# Altium integrated library BB Instrumentation Amplifier.IntLib: 107 symbols (part 1 of 3)
Pins are listed as number, name and electrical type; pins without a type are passive.

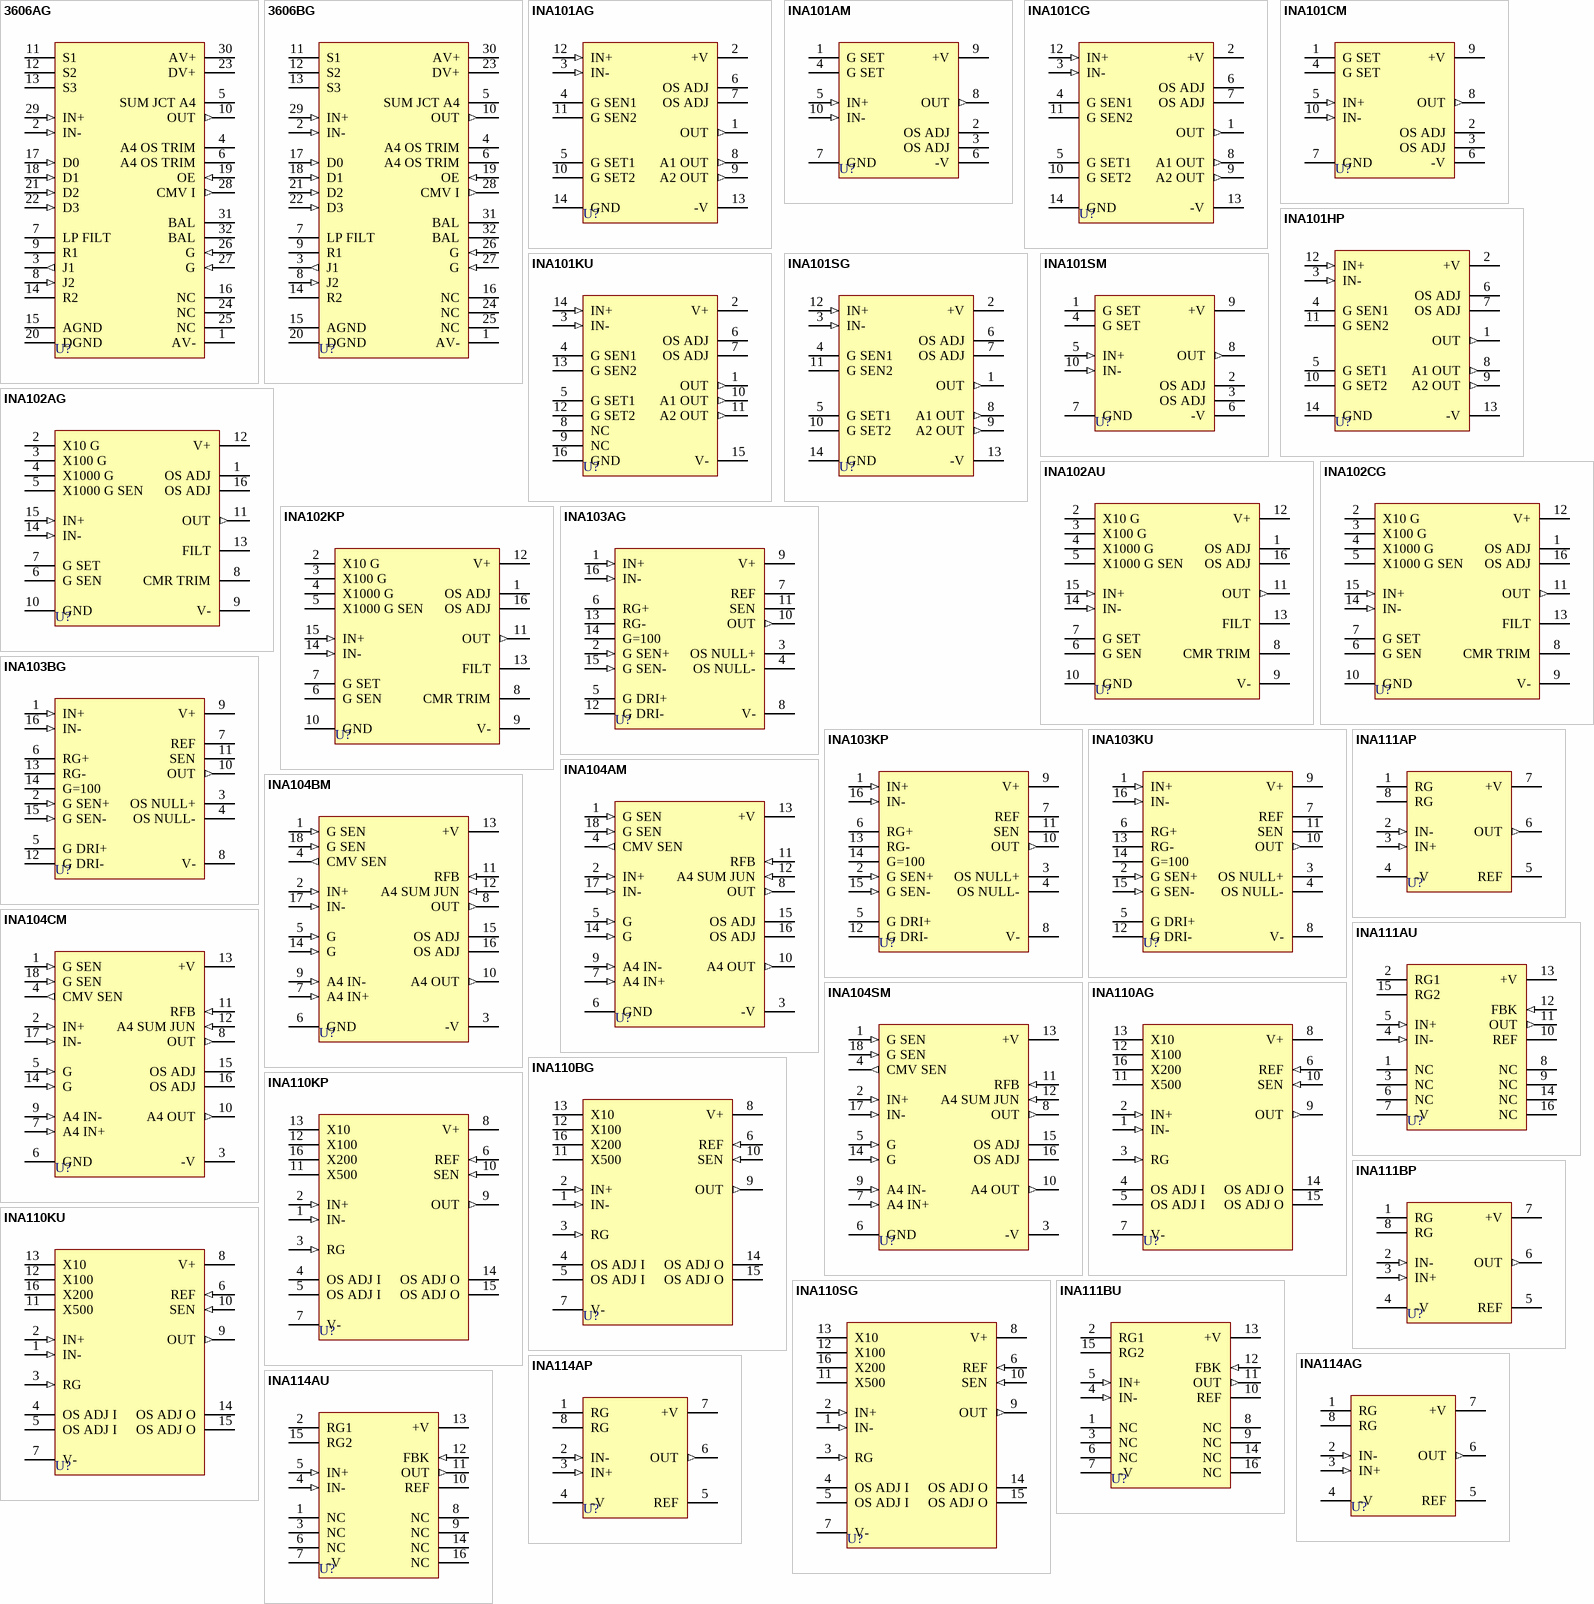
[diagram p0: symbols 3606AG to INA114AU]

## 3606AG
designator U?
Digitally-Controlled Programmable Gain Instrumentation Amplifier; Note: Pins 16, 24 and 25 are No internal Connection (NC) pins.; Published: 8-Jun-2000; LatestRevisionDate: 17-Jul-2002; LatestRevisionNote: Re-released for DXP Platform.; DatasheetVersion: 1989; PackageVersion: revB; PackageReference: ZZ077; Publisher: Altium Limited; PackageDescription: DIP; 32 Round Pins; Row Space 22.86 mm; Pitch 2.54 mm; ComponentLink1Description: Manufacturer Link; ComponentLink1URL: http://www.ti.com/
footprint ZZ077 (DIP; 32 Round Pins; Row Space 22.86 mm; Pitch 2.54 mm)
pins: 1 AV- (power), 2 IN- (in), 3 J1 (out), 4 A4 OS TRIM, 5 SUM JCT A4, 6 A4 OS TRIM, 7 LP FILT, 8 J2 (in), 9 R1, 10 OUT (out), 11 S1, 12 S2, 13 S3, 14 R2, 15 AGND (power), 16 NC, 17 D0 (in), 18 D1 (in), 19 OE (in), 20 DGND (power), 21 D2 (in), 22 D3 (in), 23 DV+ (power), 24 NC, 25 NC, 26 G (in), 27 G (in), 28 CMV I (out), 29 IN+ (in), 30 AV+ (power), 31 BAL, 32 BAL

## 3606BG
designator U?
Digitally-Controlled Programmable Gain Instrumentation Amplifier; Note: Pins 16, 24 and 25 are No internal Connection (NC) pins.; Published: 8-Jun-2000; LatestRevisionDate: 17-Jul-2002; LatestRevisionNote: Re-released for DXP Platform.; DatasheetVersion: 1989; PackageVersion: revB; PackageReference: ZZ077; Publisher: Altium Limited; PackageDescription: DIP; 32 Round Pins; Row Space 22.86 mm; Pitch 2.54 mm; ComponentLink1Description: Manufacturer Link; ComponentLink1URL: http://www.ti.com/
footprint ZZ077 (DIP; 32 Round Pins; Row Space 22.86 mm; Pitch 2.54 mm)
pins: 1 AV- (power), 2 IN- (in), 3 J1 (out), 4 A4 OS TRIM, 5 SUM JCT A4, 6 A4 OS TRIM, 7 LP FILT, 8 J2 (in), 9 R1, 10 OUT (out), 11 S1, 12 S2, 13 S3, 14 R2, 15 AGND (power), 16 NC, 17 D0 (in), 18 D1 (in), 19 OE (in), 20 DGND (power), 21 D2 (in), 22 D3 (in), 23 DV+ (power), 24 NC, 25 NC, 26 G (in), 27 G (in), 28 CMV I (out), 29 IN+ (in), 30 AV+ (power), 31 BAL, 32 BAL

## INA101AG
designator U?
High-Accuracy Instrumentation Amplifier; Published: 8-Jun-2000; LatestRevisionDate: 06-Jun-2005; LatestRevisionNote: Stylized 3D Model Added.; DatasheetVersion: Jul-1998; PackageVersion: 1996/1997; PackageReference: 169F; Publisher: Altium Limited; PackageDescription: DIP; 14 Leads; Row Spacing 7.62 mm; Pitch 2.54 mm; ComponentLink1Description: Manufacturer Link; ComponentLink1URL: http://www.ti.com/; ComponentLink2Description: Datasheet; ComponentLink2URL: http://www-s.ti.com/sc/ds/INA101.pdf
footprint 169F (DIP; 14 Leads; Row Spacing 7.62 mm; Pitch 2.54 mm)
3D model 010G (DIP; 14 Leads; Row Spacing 7.62 mm; Pitch 2.54 mm)
pins: 1 OUT (out), 2 +V (power), 3 IN- (in), 4 G SEN1, 5 G SET1, 6 OS ADJ, 7 OS ADJ, 8 A1 OUT (out), 9 A2 OUT (out), 10 G SET2, 11 G SEN2, 12 IN+ (in), 13 -V (power), 14 GND (power)

## INA101AM
designator U?
High-Accuracy Instrumentation Amplifier; Published: 8-Jun-2000; LatestRevisionDate: 17-Jul-2002; LatestRevisionNote: Re-released for DXP Platform.; DatasheetVersion: Jul-1998; PackageVersion: revA; PackageReference: ZZ007; Publisher: Altium Limited; PackageDescription: Can; 10 Leads; Pin Circle Dia. 5.84 mm (TO-100); Lead Dia. 0.53 mm (max); ComponentLink1Description: Manufacturer Link; ComponentLink1URL: http://www.ti.com/; ComponentLink2Description: Datasheet; ComponentLink2URL: http://www-s.ti.com/sc/ds/INA101.pdf
footprint ZZ007 (Can; 10 Leads; Pin Circle Dia. 5.84 mm (TO-100); Lead Dia. 0.53 mm (max))
pins: 1 G SET, 2 OS ADJ, 3 OS ADJ, 4 G SET, 5 IN+ (in), 6 -V (power), 7 GND (power), 8 OUT (out), 9 +V (power), 10 IN- (in)

## INA101CG
designator U?
High-Accuracy Instrumentation Amplifier; Published: 8-Jun-2000; LatestRevisionDate: 06-Jun-2005; LatestRevisionNote: Stylized 3D Model Added.; DatasheetVersion: Jul-1998; PackageVersion: 1996/1997; PackageReference: 169F; Publisher: Altium Limited; PackageDescription: DIP; 14 Leads; Row Spacing 7.62 mm; Pitch 2.54 mm; ComponentLink1Description: Manufacturer Link; ComponentLink1URL: http://www.ti.com/; ComponentLink2Description: Datasheet; ComponentLink2URL: http://www-s.ti.com/sc/ds/INA101.pdf
footprint 169F (DIP; 14 Leads; Row Spacing 7.62 mm; Pitch 2.54 mm)
3D model 010G (DIP; 14 Leads; Row Spacing 7.62 mm; Pitch 2.54 mm)
pins: 1 OUT (out), 2 +V (power), 3 IN- (in), 4 G SEN1, 5 G SET1, 6 OS ADJ, 7 OS ADJ, 8 A1 OUT (out), 9 A2 OUT (out), 10 G SET2, 11 G SEN2, 12 IN+ (in), 13 -V (power), 14 GND (power)

## INA101CM
designator U?
High-Accuracy Instrumentation Amplifier; Published: 8-Jun-2000; LatestRevisionDate: 17-Jul-2002; LatestRevisionNote: Re-released for DXP Platform.; DatasheetVersion: Jul-1998; PackageVersion: revA; PackageReference: ZZ007; Publisher: Altium Limited; PackageDescription: Can; 10 Leads; Pin Circle Dia. 5.84 mm (TO-100); Lead Dia. 0.53 mm (max); ComponentLink1Description: Manufacturer Link; ComponentLink1URL: http://www.ti.com/; ComponentLink2Description: Datasheet; ComponentLink2URL: http://www-s.ti.com/sc/ds/INA101.pdf
footprint ZZ007 (Can; 10 Leads; Pin Circle Dia. 5.84 mm (TO-100); Lead Dia. 0.53 mm (max))
pins: 1 G SET, 2 OS ADJ, 3 OS ADJ, 4 G SET, 5 IN+ (in), 6 -V (power), 7 GND (power), 8 OUT (out), 9 +V (power), 10 IN- (in)

## INA101HP
designator U?
High-Accuracy Instrumentation Amplifier; Published: 8-Jun-2000; LatestRevisionDate: 06-Jun-2005; LatestRevisionNote: Stylized 3D Model Added.; DatasheetVersion: Jul-1998; PackageVersion: revG; PackageReference: ZZ010; Publisher: Altium Limited; PackageDescription: DIP, Plastic; 14 Leads; Row Spacing 7.62 mm; Pitch 2.54 mm; Code_JEDEC: MS-001-AA; ComponentLink1Description: Manufacturer Link; ComponentLink1URL: http://www.ti.com/; ComponentLink2Description: Datasheet; ComponentLink2URL: http://www-s.ti.com/sc/ds/INA101.pdf
footprint ZZ010 (DIP, Plastic; 14 Leads; Row Spacing 7.62 mm; Pitch 2.54 mm)
3D model DIP14 (DIP, Plastic; 14 Leads; Row Spacing 7.62 mm; Pitch 2.54 mm)
pins: 1 OUT (out), 2 +V (power), 3 IN- (in), 4 G SEN1, 5 G SET1, 6 OS ADJ, 7 OS ADJ, 8 A1 OUT (out), 9 A2 OUT (out), 10 G SET2, 11 G SEN2, 12 IN+ (in), 13 -V (power), 14 GND (power)

## INA101KU
designator U?
High-Accuracy Instrumentation Amplifier; Note: Pins 8 and 9 are No internal Connection (NC) pins.; Published: 8-Jun-2000; LatestRevisionDate: 13-Apr-2006; LatestRevisionNote: IPC-7351 Footprint Added.; DatasheetVersion: Jul-1998; PackageReference: 211F; Publisher: Altium Limited; PackageDescription: 16-Pin Small Outline Integrated Circuit 1.27 mm Pitch; Code_JEDEC: MS-013-AA; Code_IPC: SOIC127P1030-16; ComponentLink1Description: Manufacturer Link; ComponentLink1URL: http://www.ti.com/; ComponentLink2Description: Datasheet; ComponentLink2URL: http://www-s.ti.com/sc/ds/INA101.pdf
footprint 211F_N (SOIC, 16-Leads, Body 10.3x7.5mm, Pitch 1.27mm, IPC Medium Density)
footprint 211F_L (SOIC, 16-Leads, Body 10.3x7.5mm, Pitch 1.27mm, IPC High Density)
footprint 211F_M (SOIC, 16-Leads, Body 10.3x7.5mm, Pitch 1.27mm, IPC Low Density)
3D model SOIC16 (16-Pin Small Outline Integrated Circuit 1.27 mm Pitch)
pins: 1 OUT (out), 2 V+ (power), 3 IN- (in), 4 G SEN1, 5 G SET1, 6 OS ADJ, 7 OS ADJ, 8 NC, 9 NC, 10 A1 OUT (out), 11 A2 OUT (out), 12 G SET2, 13 G SEN2, 14 IN+ (in), 15 V- (power), 16 GND (power)

## INA101SG
designator U?
High-Accuracy Instrumentation Amplifier; Published: 8-Jun-2000; LatestRevisionDate: 06-Jun-2005; LatestRevisionNote: Stylized 3D Model Added.; DatasheetVersion: Jul-1998; PackageVersion: 1996/1997; PackageReference: 169F; Publisher: Altium Limited; PackageDescription: DIP; 14 Leads; Row Spacing 7.62 mm; Pitch 2.54 mm; ComponentLink1Description: Manufacturer Link; ComponentLink1URL: http://www.ti.com/; ComponentLink2Description: Datasheet; ComponentLink2URL: http://www-s.ti.com/sc/ds/INA101.pdf
footprint 169F (DIP; 14 Leads; Row Spacing 7.62 mm; Pitch 2.54 mm)
3D model 010G (DIP; 14 Leads; Row Spacing 7.62 mm; Pitch 2.54 mm)
pins: 1 OUT (out), 2 +V (power), 3 IN- (in), 4 G SEN1, 5 G SET1, 6 OS ADJ, 7 OS ADJ, 8 A1 OUT (out), 9 A2 OUT (out), 10 G SET2, 11 G SEN2, 12 IN+ (in), 13 -V (power), 14 GND (power)

## INA101SM
designator U?
High-Accuracy Instrumentation Amplifier; Published: 8-Jun-2000; LatestRevisionDate: 17-Jul-2002; LatestRevisionNote: Re-released for DXP Platform.; DatasheetVersion: Jul-1998; PackageVersion: revA; PackageReference: ZZ007; Publisher: Altium Limited; PackageDescription: Can; 10 Leads; Pin Circle Dia. 5.84 mm (TO-100); Lead Dia. 0.53 mm (max); ComponentLink1Description: Manufacturer Link; ComponentLink1URL: http://www.ti.com/; ComponentLink2Description: Datasheet; ComponentLink2URL: http://www-s.ti.com/sc/ds/INA101.pdf
footprint ZZ007 (Can; 10 Leads; Pin Circle Dia. 5.84 mm (TO-100); Lead Dia. 0.53 mm (max))
pins: 1 G SET, 2 OS ADJ, 3 OS ADJ, 4 G SET, 5 IN+ (in), 6 -V (power), 7 GND (power), 8 OUT (out), 9 +V (power), 10 IN- (in)

## INA102AG
designator U?
Low-Power Instrumentation Amplifier; Published: 8-Jun-2000; LatestRevisionDate: 06-Jun-2005; LatestRevisionNote: Stylized 3D Model Added.; DatasheetVersion: Oct-1993; PackageVersion: revD; PackageReference: 109D; Publisher: Altium Limited; PackageDescription: DIP; 16 Leads; Row Spacing 7.62 mm; Pitch 2.54 mm; ComponentLink1Description: Manufacturer Link; ComponentLink1URL: http://www.ti.com/; ComponentLink2Description: Datasheet; ComponentLink2URL: http://www-s.ti.com/sc/ds/INA102.pdf
footprint 109D (DIP; 16 Leads; Row Spacing 7.62 mm; Pitch 2.54 mm)
3D model ZZ180 (DIP; 16 Leads; Row Spacing 7.62 mm; Pitch 2.54 mm)
pins: 1 OS ADJ, 2 X10 G, 3 X100 G, 4 X1000 G, 5 X1000 G SEN, 6 G SEN, 7 G SET, 8 CMR TRIM, 9 V- (power), 10 GND (power), 11 OUT (out), 12 V+ (power), 13 FILT, 14 IN- (in), 15 IN+ (in), 16 OS ADJ

## INA102AU
designator U?
Low-Power Instrumentation Amplifier; Published: 8-Jun-2000; LatestRevisionDate: 13-Apr-2006; LatestRevisionNote: IPC-7351 Footprint Added.; DatasheetVersion: Oct-1993; PackageReference: 211F; Publisher: Altium Limited; PackageDescription: 16-Pin Small Outline Integrated Circuit 1.27 mm Pitch; Code_JEDEC: MS-013-AA; Code_IPC: SOIC127P1030-16; ComponentLink1Description: Manufacturer Link; ComponentLink1URL: http://www.ti.com/; ComponentLink2Description: Datasheet; ComponentLink2URL: http://www-s.ti.com/sc/ds/INA102.pdf
footprint 211F_N (SOIC, 16-Leads, Body 10.3x7.5mm, Pitch 1.27mm, IPC Medium Density)
footprint 211F_L (SOIC, 16-Leads, Body 10.3x7.5mm, Pitch 1.27mm, IPC High Density)
footprint 211F_M (SOIC, 16-Leads, Body 10.3x7.5mm, Pitch 1.27mm, IPC Low Density)
3D model SOIC16 (16-Pin Small Outline Integrated Circuit 1.27 mm Pitch)
pins: 1 OS ADJ, 2 X10 G, 3 X100 G, 4 X1000 G, 5 X1000 G SEN, 6 G SEN, 7 G SET, 8 CMR TRIM, 9 V- (power), 10 GND (power), 11 OUT (out), 12 V+ (power), 13 FILT, 14 IN- (in), 15 IN+ (in), 16 OS ADJ

## INA102CG
designator U?
Low-Power Instrumentation Amplifier; Published: 8-Jun-2000; LatestRevisionDate: 06-Jun-2005; LatestRevisionNote: Stylized 3D Model Added.; DatasheetVersion: Oct-1993; PackageVersion: revD; PackageReference: 109D; Publisher: Altium Limited; PackageDescription: DIP; 16 Leads; Row Spacing 7.62 mm; Pitch 2.54 mm; ComponentLink1Description: Manufacturer Link; ComponentLink1URL: http://www.ti.com/; ComponentLink2Description: Datasheet; ComponentLink2URL: http://www-s.ti.com/sc/ds/INA102.pdf
footprint 109D (DIP; 16 Leads; Row Spacing 7.62 mm; Pitch 2.54 mm)
3D model ZZ180 (DIP; 16 Leads; Row Spacing 7.62 mm; Pitch 2.54 mm)
pins: 1 OS ADJ, 2 X10 G, 3 X100 G, 4 X1000 G, 5 X1000 G SEN, 6 G SEN, 7 G SET, 8 CMR TRIM, 9 V- (power), 10 GND (power), 11 OUT (out), 12 V+ (power), 13 FILT, 14 IN- (in), 15 IN+ (in), 16 OS ADJ

## INA102KP
designator U?
Low-Power Instrumentation Amplifier; Published: 8-Jun-2000; LatestRevisionDate: 06-Jun-2005; LatestRevisionNote: Stylized 3D Model Added.; DatasheetVersion: Oct-1993; PackageVersion: revF; PackageReference: ZZ180; Publisher: Altium Limited; PackageDescription: DIP, Plastic; 16 Leads; Row Spacing 7.62 mm; Pitch 2.54 mm; Code_JEDEC: MS-001-BB; ComponentLink1Description: Manufacturer Link; ComponentLink1URL: http://www.ti.com/; ComponentLink2Description: Datasheet; ComponentLink2URL: http://www-s.ti.com/sc/ds/INA102.pdf
footprint ZZ180 (DIP, Plastic; 16 Leads; Row Spacing 7.62 mm; Pitch 2.54 mm)
3D model ZZ180 (DIP, Plastic; 16 Leads; Row Spacing 7.62 mm; Pitch 2.54 mm)
pins: 1 OS ADJ, 2 X10 G, 3 X100 G, 4 X1000 G, 5 X1000 G SEN, 6 G SEN, 7 G SET, 8 CMR TRIM, 9 V- (power), 10 GND (power), 11 OUT (out), 12 V+ (power), 13 FILT, 14 IN- (in), 15 IN+ (in), 16 OS ADJ

## INA103AG
designator U?
Low-Noise, Low Distortion Instrumentation Amplifier; Published: 8-Jun-2000; LatestRevisionDate: 06-Jun-2005; LatestRevisionNote: Stylized 3D Model Added.; DatasheetVersion: 1994; PackageVersion: revD; PackageReference: 109D; Publisher: Altium Limited; PackageDescription: DIP; 16 Leads; Row Spacing 7.62 mm; Pitch 2.54 mm; ComponentLink1Description: Manufacturer Link; ComponentLink1URL: http://www.ti.com/; ComponentLink2Description: Datasheet; ComponentLink2URL: http://www-s.ti.com/sc/ds/ina103.pdf
footprint 109D (DIP; 16 Leads; Row Spacing 7.62 mm; Pitch 2.54 mm)
3D model ZZ180 (DIP; 16 Leads; Row Spacing 7.62 mm; Pitch 2.54 mm)
simulation model INA103 (SUBCKT)
pins: 1 IN+ (in), 2 G SEN+ (in), 3 OS NULL+, 4 OS NULL-, 5 G DRI+, 6 RG+, 7 REF, 8 V- (power), 9 V+ (power), 10 OUT (out), 11 SEN, 12 G DRI-, 13 RG-, 14 G=100, 15 G SEN- (in), 16 IN- (in)

## INA103BG
designator U?
Low-Noise, Low Distortion Instrumentation Amplifier; Published: 8-Jun-2000; LatestRevisionDate: 06-Jun-2005; LatestRevisionNote: Stylized 3D Model Added.; DatasheetVersion: 1994; PackageVersion: revD; PackageReference: 109D; Publisher: Altium Limited; PackageDescription: DIP; 16 Leads; Row Spacing 7.62 mm; Pitch 2.54 mm; ComponentLink1Description: Manufacturer Link; ComponentLink1URL: http://www.ti.com/; ComponentLink2Description: Datasheet; ComponentLink2URL: http://www-s.ti.com/sc/ds/ina103.pdf
footprint 109D (DIP; 16 Leads; Row Spacing 7.62 mm; Pitch 2.54 mm)
3D model ZZ180 (DIP; 16 Leads; Row Spacing 7.62 mm; Pitch 2.54 mm)
simulation model INA103 (SUBCKT)
pins: 1 IN+ (in), 2 G SEN+ (in), 3 OS NULL+, 4 OS NULL-, 5 G DRI+, 6 RG+, 7 REF, 8 V- (power), 9 V+ (power), 10 OUT (out), 11 SEN, 12 G DRI-, 13 RG-, 14 G=100, 15 G SEN- (in), 16 IN- (in)

## INA103KP
designator U?
Low-Noise, Low Distortion Instrumentation Amplifier; Published: 8-Jun-2000; LatestRevisionDate: 06-Jun-2005; LatestRevisionNote: Stylized 3D Model Added.; DatasheetVersion: Mar-1998; PackageVersion: revF; PackageReference: ZZ180; Publisher: Altium Limited; PackageDescription: DIP, Plastic; 16 Leads; Row Spacing 7.62 mm; Pitch 2.54 mm; Code_JEDEC: MS-001-BB; ComponentLink1Description: Manufacturer Link; ComponentLink1URL: http://www.ti.com/; ComponentLink2Description: Datasheet; ComponentLink2URL: http://www-s.ti.com/sc/ds/INA103.pdf
footprint ZZ180 (DIP, Plastic; 16 Leads; Row Spacing 7.62 mm; Pitch 2.54 mm)
3D model ZZ180 (DIP, Plastic; 16 Leads; Row Spacing 7.62 mm; Pitch 2.54 mm)
simulation model INA103 (SUBCKT)
pins: 1 IN+ (in), 2 G SEN+ (in), 3 OS NULL+, 4 OS NULL-, 5 G DRI+, 6 RG+, 7 REF, 8 V- (power), 9 V+ (power), 10 OUT (out), 11 SEN, 12 G DRI-, 13 RG-, 14 G=100, 15 G SEN- (in), 16 IN- (in)

## INA103KU
designator U?
Low-Noise, Low Distortion Instrumentation Amplifier; Published: 8-Jun-2000; LatestRevisionDate: 13-Apr-2006; LatestRevisionNote: IPC-7351 Footprint Added.; DatasheetVersion: Mar-1998; PackageReference: 211F; Publisher: Altium Limited; PackageDescription: 16-Pin Small Outline Integrated Circuit 1.27 mm Pitch; Code_JEDEC: MS-013-AA; Code_IPC: SOIC127P1030-16; ComponentLink1Description: Manufacturer Link; ComponentLink1URL: http://www.ti.com/; ComponentLink2Description: Datasheet; ComponentLink2URL: http://www-s.ti.com/sc/ds/INA103.pdf
footprint 211F_N (SOIC, 16-Leads, Body 10.3x7.5mm, Pitch 1.27mm, IPC Medium Density)
footprint 211F_L (SOIC, 16-Leads, Body 10.3x7.5mm, Pitch 1.27mm, IPC High Density)
footprint 211F_M (SOIC, 16-Leads, Body 10.3x7.5mm, Pitch 1.27mm, IPC Low Density)
3D model SOIC16 (16-Pin Small Outline Integrated Circuit 1.27 mm Pitch)
simulation model INA103 (SUBCKT)
pins: 1 IN+ (in), 2 G SEN+ (in), 3 OS NULL+, 4 OS NULL-, 5 G DRI+, 6 RG+, 7 REF, 8 V- (power), 9 V+ (power), 10 OUT (out), 11 SEN, 12 G DRI-, 13 RG-, 14 G=100, 15 G SEN- (in), 16 IN- (in)

## INA104AM
designator U?
Very-High Accuracy Instrumentation Amplifier; Published: 8-Jun-2000; LatestRevisionDate: 17-Jul-2002; LatestRevisionNote: Re-released for DXP Platform.; DatasheetVersion: May-1995; PackageVersion: revA; PackageReference: ZZ108; Publisher: Altium Limited; PackageDescription: DIP; 18 Round Pins; Row Space 7.62 mm; Pitch 2.54 mm; ComponentLink1Description: Manufacturer Link; ComponentLink1URL: http://www.ti.com/
footprint ZZ108 (DIP; 18 Round Pins; Row Space 7.62 mm; Pitch 2.54 mm)
pins: 1 G SEN (in), 2 IN+ (in), 3 -V (power), 4 CMV SEN (out), 5 G (in), 6 GND (power), 7 A4 IN+ (in), 8 OUT (out), 9 A4 IN- (in), 10 A4 OUT (out), 11 RFB (in), 12 A4 SUM JUN (in), 13 +V (power), 14 G (in), 15 OS ADJ, 16 OS ADJ, 17 IN- (in), 18 G SEN (in)

## INA104BM
designator U?
Very-High Accuracy Instrumentation Amplifier; Published: 8-Jun-2000; LatestRevisionDate: 17-Jul-2002; LatestRevisionNote: Re-released for DXP Platform.; DatasheetVersion: May-1995; PackageVersion: revA; PackageReference: ZZ108; Publisher: Altium Limited; PackageDescription: DIP; 18 Round Pins; Row Space 7.62 mm; Pitch 2.54 mm; ComponentLink1Description: Manufacturer Link; ComponentLink1URL: http://www.ti.com/
footprint ZZ108 (DIP; 18 Round Pins; Row Space 7.62 mm; Pitch 2.54 mm)
pins: 1 G SEN (in), 2 IN+ (in), 3 -V (power), 4 CMV SEN (out), 5 G (in), 6 GND (power), 7 A4 IN+ (in), 8 OUT (out), 9 A4 IN- (in), 10 A4 OUT (out), 11 RFB (in), 12 A4 SUM JUN (in), 13 +V (power), 14 G (in), 15 OS ADJ, 16 OS ADJ, 17 IN- (in), 18 G SEN (in)

## INA104CM
designator U?
Very-High Accuracy Instrumentation Amplifier; Published: 8-Jun-2000; LatestRevisionDate: 17-Jul-2002; LatestRevisionNote: Re-released for DXP Platform.; DatasheetVersion: May-1995; PackageVersion: revA; PackageReference: ZZ108; Publisher: Altium Limited; PackageDescription: DIP; 18 Round Pins; Row Space 7.62 mm; Pitch 2.54 mm; ComponentLink1Description: Manufacturer Link; ComponentLink1URL: http://www.ti.com/
footprint ZZ108 (DIP; 18 Round Pins; Row Space 7.62 mm; Pitch 2.54 mm)
pins: 1 G SEN (in), 2 IN+ (in), 3 -V (power), 4 CMV SEN (out), 5 G (in), 6 GND (power), 7 A4 IN+ (in), 8 OUT (out), 9 A4 IN- (in), 10 A4 OUT (out), 11 RFB (in), 12 A4 SUM JUN (in), 13 +V (power), 14 G (in), 15 OS ADJ, 16 OS ADJ, 17 IN- (in), 18 G SEN (in)

## INA104SM
designator U?
Very-High Accuracy Instrumentation Amplifier; Published: 8-Jun-2000; LatestRevisionDate: 17-Jul-2002; LatestRevisionNote: Re-released for DXP Platform.; DatasheetVersion: May-1995; PackageVersion: revA; PackageReference: ZZ108; Publisher: Altium Limited; PackageDescription: DIP; 18 Round Pins; Row Space 7.62 mm; Pitch 2.54 mm; ComponentLink1Description: Manufacturer Link; ComponentLink1URL: http://www.ti.com/
footprint ZZ108 (DIP; 18 Round Pins; Row Space 7.62 mm; Pitch 2.54 mm)
pins: 1 G SEN (in), 2 IN+ (in), 3 -V (power), 4 CMV SEN (out), 5 G (in), 6 GND (power), 7 A4 IN+ (in), 8 OUT (out), 9 A4 IN- (in), 10 A4 OUT (out), 11 RFB (in), 12 A4 SUM JUN (in), 13 +V (power), 14 G (in), 15 OS ADJ, 16 OS ADJ, 17 IN- (in), 18 G SEN (in)

## INA110AG
designator U?
Fast-Settling FET-Input Instrumentation Amplifier; Published: 8-Jun-2000; LatestRevisionDate: 06-Jun-2005; LatestRevisionNote: Stylized 3D Model Added.; DatasheetVersion: Sep-1993; PackageVersion: revD; PackageReference: 109D; Publisher: Altium Limited; PackageDescription: DIP; 16 Leads; Row Spacing 7.62 mm; Pitch 2.54 mm; ComponentLink1Description: Manufacturer Link; ComponentLink1URL: http://www.ti.com/; ComponentLink2Description: Datasheet; ComponentLink2URL: http://www-s.ti.com/sc/ds/INA110.pdf
footprint 109D (DIP; 16 Leads; Row Spacing 7.62 mm; Pitch 2.54 mm)
3D model ZZ180 (DIP; 16 Leads; Row Spacing 7.62 mm; Pitch 2.54 mm)
pins: 1 IN- (in), 2 IN+ (in), 3 RG (in), 4 OS ADJ I, 5 OS ADJ I, 6 REF (in), 7 V- (power), 8 V+ (power), 9 OUT (out), 10 SEN (in), 11 X500, 12 X100, 13 X10, 14 OS ADJ O, 15 OS ADJ O, 16 X200

## INA110BG
designator U?
Fast-Settling FET-Input Instrumentation Amplifier; Published: 8-Jun-2000; LatestRevisionDate: 06-Jun-2005; LatestRevisionNote: Stylized 3D Model Added.; DatasheetVersion: Sep-1993; PackageVersion: revD; PackageReference: 109D; Publisher: Altium Limited; PackageDescription: DIP; 16 Leads; Row Spacing 7.62 mm; Pitch 2.54 mm; ComponentLink1Description: Manufacturer Link; ComponentLink1URL: http://www.ti.com/; ComponentLink2Description: Datasheet; ComponentLink2URL: http://www-s.ti.com/sc/ds/INA110.pdf
footprint 109D (DIP; 16 Leads; Row Spacing 7.62 mm; Pitch 2.54 mm)
3D model ZZ180 (DIP; 16 Leads; Row Spacing 7.62 mm; Pitch 2.54 mm)
pins: 1 IN- (in), 2 IN+ (in), 3 RG (in), 4 OS ADJ I, 5 OS ADJ I, 6 REF (in), 7 V- (power), 8 V+ (power), 9 OUT (out), 10 SEN (in), 11 X500, 12 X100, 13 X10, 14 OS ADJ O, 15 OS ADJ O, 16 X200

## INA110KP
designator U?
Fast-Settling FET-Input Instrumentation Amplifier; Published: 8-Jun-2000; LatestRevisionDate: 06-Jun-2005; LatestRevisionNote: Stylized 3D Model Added.; DatasheetVersion: Sep-1993; PackageVersion: revF; PackageReference: ZZ180; Publisher: Altium Limited; PackageDescription: DIP, Plastic; 16 Leads; Row Spacing 7.62 mm; Pitch 2.54 mm; Code_JEDEC: MS-001-BB; ComponentLink1Description: Manufacturer Link; ComponentLink1URL: http://www.ti.com/; ComponentLink2Description: Datasheet; ComponentLink2URL: http://www-s.ti.com/sc/ds/INA110.pdf
footprint ZZ180 (DIP, Plastic; 16 Leads; Row Spacing 7.62 mm; Pitch 2.54 mm)
3D model ZZ180 (DIP, Plastic; 16 Leads; Row Spacing 7.62 mm; Pitch 2.54 mm)
pins: 1 IN- (in), 2 IN+ (in), 3 RG (in), 4 OS ADJ I, 5 OS ADJ I, 6 REF (in), 7 V- (power), 8 V+ (power), 9 OUT (out), 10 SEN (in), 11 X500, 12 X100, 13 X10, 14 OS ADJ O, 15 OS ADJ O, 16 X200

## INA110KU
designator U?
Fast-Settling FET-Input Instrumentation Amplifier; Published: 8-Jun-2000; LatestRevisionDate: 13-Apr-2006; LatestRevisionNote: IPC-7351 Footprint Added.; DatasheetVersion: Sep-1993; PackageReference: 211F; Publisher: Altium Limited; PackageDescription: 16-Pin Small Outline Integrated Circuit 1.27 mm Pitch; Code_JEDEC: MS-013-AA; Code_IPC: SOIC127P1030-16; ComponentLink1Description: Manufacturer Link; ComponentLink1URL: http://www.ti.com/; ComponentLink2Description: Datasheet; ComponentLink2URL: http://www-s.ti.com/sc/ds/INA110.pdf
footprint 211F_N (SOIC, 16-Leads, Body 10.3x7.5mm, Pitch 1.27mm, IPC Medium Density)
footprint 211F_L (SOIC, 16-Leads, Body 10.3x7.5mm, Pitch 1.27mm, IPC High Density)
footprint 211F_M (SOIC, 16-Leads, Body 10.3x7.5mm, Pitch 1.27mm, IPC Low Density)
3D model SOIC16 (16-Pin Small Outline Integrated Circuit 1.27 mm Pitch)
pins: 1 IN- (in), 2 IN+ (in), 3 RG (in), 4 OS ADJ I, 5 OS ADJ I, 6 REF (in), 7 V- (power), 8 V+ (power), 9 OUT (out), 10 SEN (in), 11 X500, 12 X100, 13 X10, 14 OS ADJ O, 15 OS ADJ O, 16 X200

## INA110SG
designator U?
Fast-Settling FET-Input Instrumentation Amplifier; Published: 8-Jun-2000; LatestRevisionDate: 06-Jun-2005; LatestRevisionNote: Stylized 3D Model Added.; DatasheetVersion: Sep-1993; PackageVersion: revD; PackageReference: 109D; Publisher: Altium Limited; PackageDescription: DIP; 16 Leads; Row Spacing 7.62 mm; Pitch 2.54 mm; ComponentLink1Description: Manufacturer Link; ComponentLink1URL: http://www.ti.com/; ComponentLink2Description: Datasheet; ComponentLink2URL: http://www-s.ti.com/sc/ds/INA110.pdf
footprint 109D (DIP; 16 Leads; Row Spacing 7.62 mm; Pitch 2.54 mm)
3D model ZZ180 (DIP; 16 Leads; Row Spacing 7.62 mm; Pitch 2.54 mm)
pins: 1 IN- (in), 2 IN+ (in), 3 RG (in), 4 OS ADJ I, 5 OS ADJ I, 6 REF (in), 7 V- (power), 8 V+ (power), 9 OUT (out), 10 SEN (in), 11 X500, 12 X100, 13 X10, 14 OS ADJ O, 15 OS ADJ O, 16 X200

## INA111AP
designator U?
High-Speed FET-Input Instrumentation Amplifier; Published: 8-Jun-2000; LatestRevisionDate: 06-Jun-2005; LatestRevisionNote: Stylized 3D Model Added.; DatasheetVersion: Mar-1998; PackageVersion: revE; PackageReference: 006E; Publisher: Altium Limited; PackageDescription: DIP; 8 Leads; Row Spacing 7.62 mm; Pitch 2.54 mm; ComponentLink1Description: Manufacturer Link; ComponentLink1URL: http://www.ti.com/; ComponentLink2Description: Datasheet; ComponentLink2URL: http://www-s.ti.com/sc/ds/INA111.pdf
footprint 006E (DIP; 8 Leads; Row Spacing 7.62 mm; Pitch 2.54 mm)
3D model DIP8 (DIP; 8 Leads; Row Spacing 7.62 mm; Pitch 2.54 mm)
simulation model INA111 (SUBCKT)
pins: 1 RG, 2 IN- (in), 3 IN+ (in), 4 -V (power), 5 REF, 6 OUT (out), 7 +V (power), 8 RG

## INA111AU
designator U?
High-Speed FET-Input Instrumentation Amplifier; Note: Pins 1, 3, 6, 8, 9, 14 and 16 are No internal Connection (NC) pins.; Published: 8-Jun-2000; LatestRevisionDate: 13-Apr-2006; LatestRevisionNote: IPC-7351 Footprint Added.; DatasheetVersion: Mar-1998; PackageReference: 211F; Publisher: Altium Limited; PackageDescription: 16-Pin Small Outline Integrated Circuit 1.27 mm Pitch; Code_JEDEC: MS-013-AA; Code_IPC: SOIC127P1030-16; ComponentLink1Description: Manufacturer Link; ComponentLink1URL: http://www.ti.com/; ComponentLink2Description: Datasheet; ComponentLink2URL: http://www-s.ti.com/sc/ds/INA111.pdf
footprint 211F_N (SOIC, 16-Leads, Body 10.3x7.5mm, Pitch 1.27mm, IPC Medium Density)
footprint 211F_L (SOIC, 16-Leads, Body 10.3x7.5mm, Pitch 1.27mm, IPC High Density)
footprint 211F_M (SOIC, 16-Leads, Body 10.3x7.5mm, Pitch 1.27mm, IPC Low Density)
3D model SOIC16 (16-Pin Small Outline Integrated Circuit 1.27 mm Pitch)
simulation model INA111 (SUBCKT)
pins: 1 NC, 2 RG1, 3 NC, 4 IN- (in), 5 IN+ (in), 6 NC, 7 -V (power), 8 NC, 9 NC, 10 REF, 11 OUT (out), 12 FBK (in), 13 +V (power), 14 NC, 15 RG2, 16 NC

## INA111BP
designator U?
High-Speed FET-Input Instrumentation Amplifier; Published: 8-Jun-2000; LatestRevisionDate: 06-Jun-2005; LatestRevisionNote: Stylized 3D Model Added.; DatasheetVersion: Mar-1998; PackageVersion: revE; PackageReference: 006E; Publisher: Altium Limited; PackageDescription: DIP; 8 Leads; Row Spacing 7.62 mm; Pitch 2.54 mm; ComponentLink1Description: Manufacturer Link; ComponentLink1URL: http://www.ti.com/; ComponentLink2Description: Datasheet; ComponentLink2URL: http://www-s.ti.com/sc/ds/INA111.pdf
footprint 006E (DIP; 8 Leads; Row Spacing 7.62 mm; Pitch 2.54 mm)
3D model DIP8 (DIP; 8 Leads; Row Spacing 7.62 mm; Pitch 2.54 mm)
simulation model INA111 (SUBCKT)
pins: 1 RG, 2 IN- (in), 3 IN+ (in), 4 -V (power), 5 REF, 6 OUT (out), 7 +V (power), 8 RG

## INA111BU
designator U?
High-Speed FET-Input Instrumentation Amplifier; Note: Pins 1, 3, 6, 8, 9, 14 and 16 are No internal Connection (NC) pins.; Published: 8-Jun-2000; LatestRevisionDate: 13-Apr-2006; LatestRevisionNote: IPC-7351 Footprint Added.; DatasheetVersion: Mar-1998; PackageReference: 211F; Publisher: Altium Limited; PackageDescription: 16-Pin Small Outline Integrated Circuit 1.27 mm Pitch; Code_JEDEC: MS-013-AA; Code_IPC: SOIC127P1030-16; ComponentLink1Description: Manufacturer Link; ComponentLink1URL: http://www.ti.com/; ComponentLink2Description: Datasheet; ComponentLink2URL: http://www-s.ti.com/sc/ds/INA111.pdf
footprint 211F_N (SOIC, 16-Leads, Body 10.3x7.5mm, Pitch 1.27mm, IPC Medium Density)
footprint 211F_L (SOIC, 16-Leads, Body 10.3x7.5mm, Pitch 1.27mm, IPC High Density)
footprint 211F_M (SOIC, 16-Leads, Body 10.3x7.5mm, Pitch 1.27mm, IPC Low Density)
3D model SOIC16 (16-Pin Small Outline Integrated Circuit 1.27 mm Pitch)
simulation model INA111 (SUBCKT)
pins: 1 NC, 2 RG1, 3 NC, 4 IN- (in), 5 IN+ (in), 6 NC, 7 -V (power), 8 NC, 9 NC, 10 REF, 11 OUT (out), 12 FBK (in), 13 +V (power), 14 NC, 15 RG2, 16 NC

## INA114AG
designator U?
Precision Instrumentation Amplifier; Published: 8-Jun-2000; LatestRevisionDate: 06-Jun-2005; LatestRevisionNote: Stylized 3D Model Added.; DatasheetVersion: 1996~1997; PackageVersion: .; PackageReference: 254; Publisher: Altium Limited; PackageDescription: DIP; 8 Leads; Row Spacing 7.62 mm; Pitch 2.54 mm; ComponentLink1Description: Manufacturer Link; ComponentLink1URL: http://www.ti.com/; ComponentLink2Description: Datasheet; ComponentLink2URL: http://www-s.ti.com/sc/ds/ina114.pdf
footprint 254 (DIP; 8 Leads; Row Spacing 7.62 mm; Pitch 2.54 mm)
3D model DIP8 (DIP; 8 Leads; Row Spacing 7.62 mm; Pitch 2.54 mm)
simulation model INA114 (SUBCKT)
pins: 1 RG, 2 IN- (in), 3 IN+ (in), 4 -V (power), 5 REF, 6 OUT (out), 7 +V (power), 8 RG

## INA114AP
designator U?
Precision Instrumentation Amplifier; Published: 8-Jun-2000; LatestRevisionDate: 06-Jun-2005; LatestRevisionNote: Stylized 3D Model Added.; DatasheetVersion: Mar-1998; PackageVersion: revE; PackageReference: 006E; Publisher: Altium Limited; PackageDescription: DIP; 8 Leads; Row Spacing 7.62 mm; Pitch 2.54 mm; ComponentLink1Description: Manufacturer Link; ComponentLink1URL: http://www.ti.com/; ComponentLink2Description: Datasheet; ComponentLink2URL: http://www-s.ti.com/sc/ds/INA114.pdf
footprint 006E (DIP; 8 Leads; Row Spacing 7.62 mm; Pitch 2.54 mm)
3D model DIP8 (DIP; 8 Leads; Row Spacing 7.62 mm; Pitch 2.54 mm)
simulation model INA114 (SUBCKT)
pins: 1 RG, 2 IN- (in), 3 IN+ (in), 4 -V (power), 5 REF, 6 OUT (out), 7 +V (power), 8 RG

## INA114AU
designator U?
Precision Instrumentation Amplifier; Note: Pins 1, 3, 6, 8, 9, 14 and 16 are No internal Connection (NC) pins.; Published: 8-Jun-2000; LatestRevisionDate: 13-Apr-2006; LatestRevisionNote: IPC-7351 Footprint Added.; DatasheetVersion: Mar-1998; PackageReference: 211F; Publisher: Altium Limited; PackageDescription: 16-Pin Small Outline Integrated Circuit 1.27 mm Pitch; Code_JEDEC: MS-013-AA; Code_IPC: SOIC127P1030-16; ComponentLink1Description: Manufacturer Link; ComponentLink1URL: http://www.ti.com/; ComponentLink2Description: Datasheet; ComponentLink2URL: http://www-s.ti.com/sc/ds/INA114.pdf
footprint 211F_N (SOIC, 16-Leads, Body 10.3x7.5mm, Pitch 1.27mm, IPC Medium Density)
footprint 211F_L (SOIC, 16-Leads, Body 10.3x7.5mm, Pitch 1.27mm, IPC High Density)
footprint 211F_M (SOIC, 16-Leads, Body 10.3x7.5mm, Pitch 1.27mm, IPC Low Density)
3D model SOIC16 (16-Pin Small Outline Integrated Circuit 1.27 mm Pitch)
simulation model INA114 (SUBCKT)
pins: 1 NC, 2 RG1, 3 NC, 4 IN- (in), 5 IN+ (in), 6 NC, 7 -V (power), 8 NC, 9 NC, 10 REF, 11 OUT (out), 12 FBK (in), 13 +V (power), 14 NC, 15 RG2, 16 NC

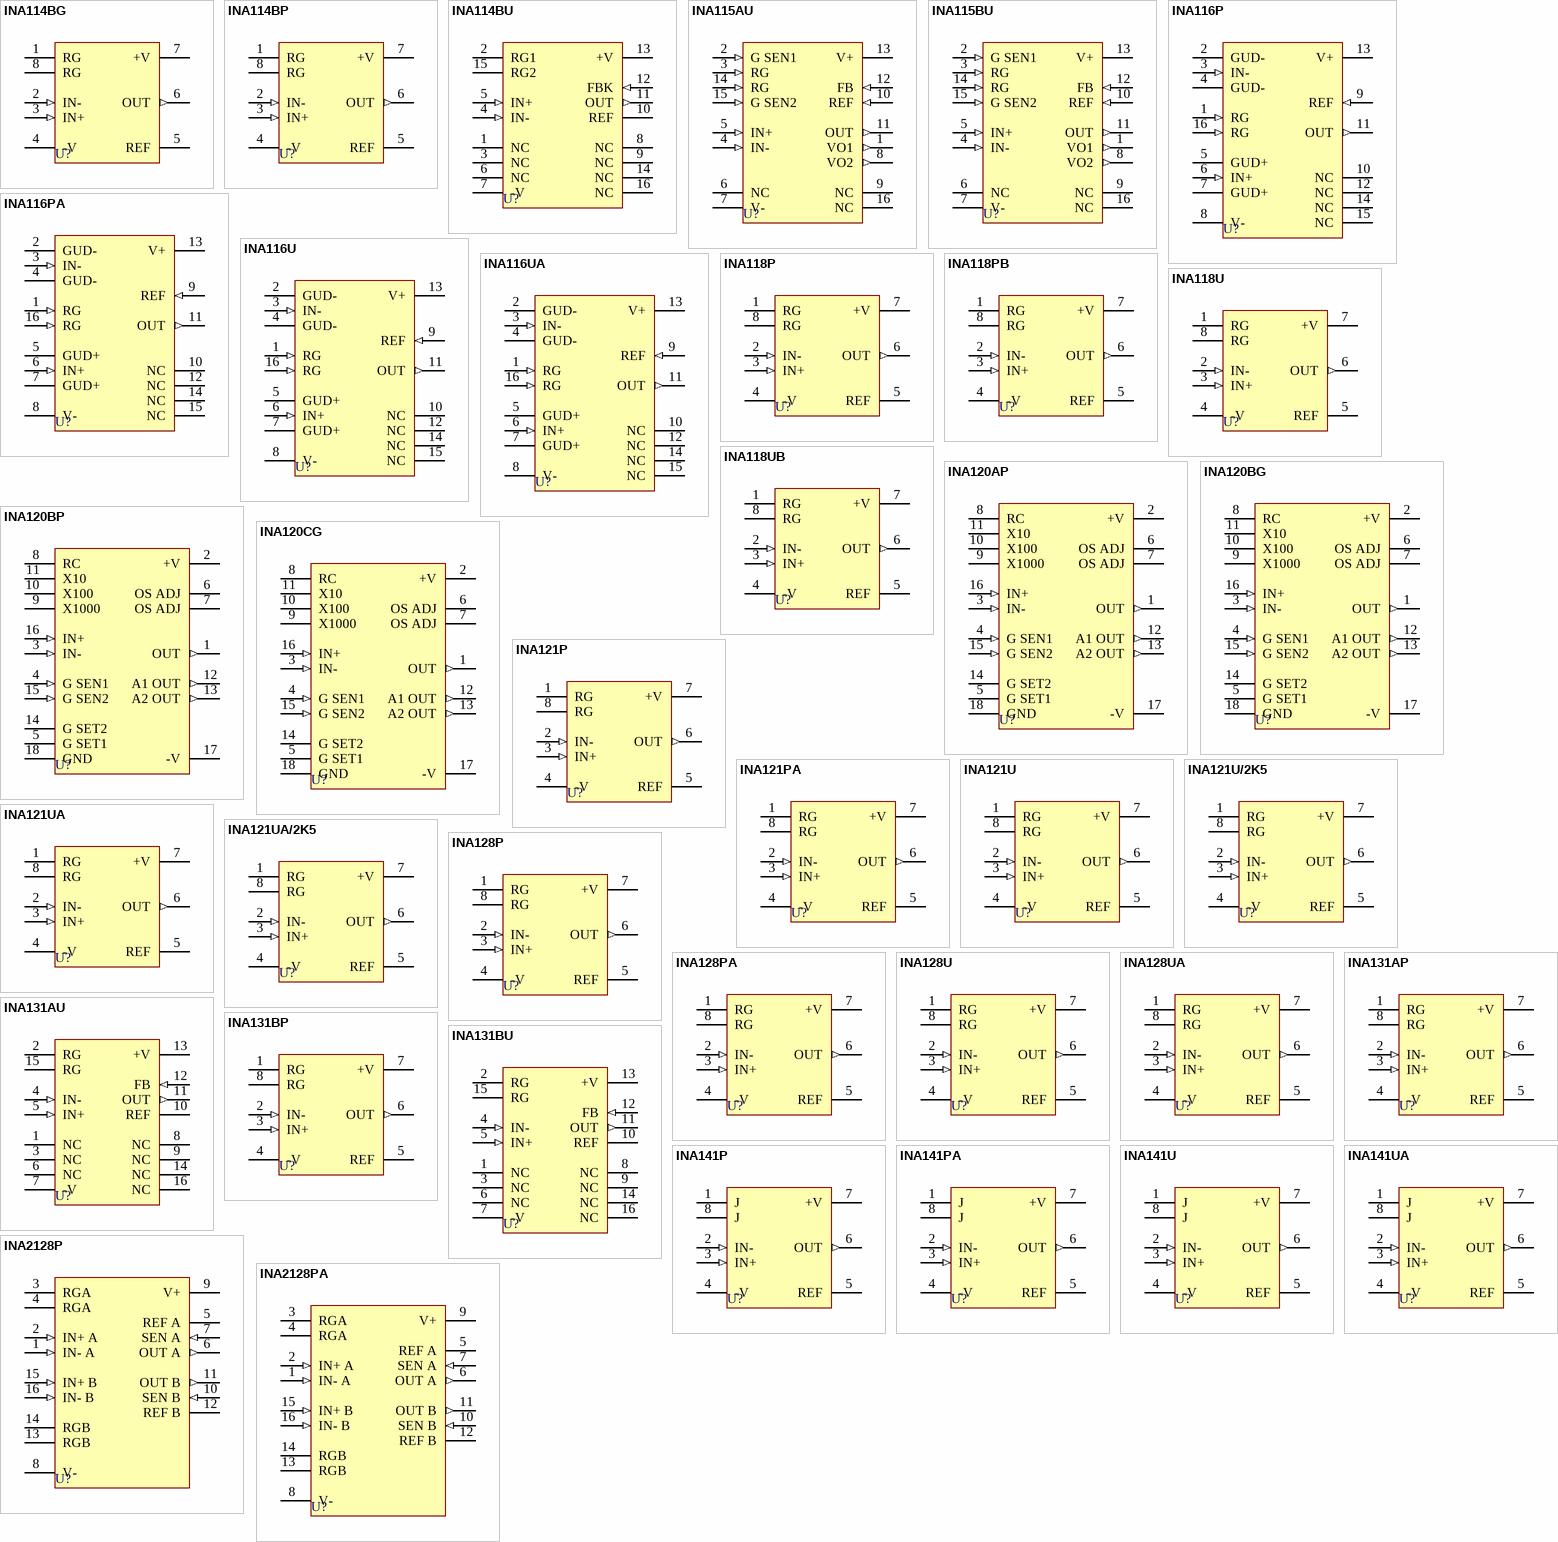
[diagram p1: symbols INA114BG to INA2128PA]

## INA114BG
designator U?
Precision Instrumentation Amplifier; Published: 8-Jun-2000; LatestRevisionDate: 06-Jun-2005; LatestRevisionNote: Stylized 3D Model Added.; DatasheetVersion: 1996~1997; PackageVersion: .; PackageReference: 254; Publisher: Altium Limited; PackageDescription: DIP; 8 Leads; Row Spacing 7.62 mm; Pitch 2.54 mm; ComponentLink1Description: Manufacturer Link; ComponentLink1URL: http://www.ti.com/; ComponentLink2Description: Datasheet; ComponentLink2URL: http://www-s.ti.com/sc/ds/ina114.pdf
footprint 254 (DIP; 8 Leads; Row Spacing 7.62 mm; Pitch 2.54 mm)
3D model DIP8 (DIP; 8 Leads; Row Spacing 7.62 mm; Pitch 2.54 mm)
simulation model INA114 (SUBCKT)
pins: 1 RG, 2 IN- (in), 3 IN+ (in), 4 -V (power), 5 REF, 6 OUT (out), 7 +V (power), 8 RG

## INA114BP
designator U?
Precision Instrumentation Amplifier; Published: 8-Jun-2000; LatestRevisionDate: 06-Jun-2005; LatestRevisionNote: Stylized 3D Model Added.; DatasheetVersion: Mar-1998; PackageVersion: revE; PackageReference: 006E; Publisher: Altium Limited; PackageDescription: DIP; 8 Leads; Row Spacing 7.62 mm; Pitch 2.54 mm; ComponentLink1Description: Manufacturer Link; ComponentLink1URL: http://www.ti.com/; ComponentLink2Description: Datasheet; ComponentLink2URL: http://www-s.ti.com/sc/ds/INA114.pdf
footprint 006E (DIP; 8 Leads; Row Spacing 7.62 mm; Pitch 2.54 mm)
3D model DIP8 (DIP; 8 Leads; Row Spacing 7.62 mm; Pitch 2.54 mm)
simulation model INA114 (SUBCKT)
pins: 1 RG, 2 IN- (in), 3 IN+ (in), 4 -V (power), 5 REF, 6 OUT (out), 7 +V (power), 8 RG

## INA114BU
designator U?
Precision Instrumentation Amplifier; Note: Pins 1, 3, 6, 8, 9, 14 and 16 are No internal Connection (NC) pins.; Published: 8-Jun-2000; LatestRevisionDate: 13-Apr-2006; LatestRevisionNote: IPC-7351 Footprint Added.; DatasheetVersion: Mar-1998; PackageReference: 211F; Publisher: Altium Limited; PackageDescription: 16-Pin Small Outline Integrated Circuit 1.27 mm Pitch; Code_JEDEC: MS-013-AA; Code_IPC: SOIC127P1030-16; ComponentLink1Description: Manufacturer Link; ComponentLink1URL: http://www.ti.com/; ComponentLink2Description: Datasheet; ComponentLink2URL: http://www-s.ti.com/sc/ds/INA114.pdf
footprint 211F_N (SOIC, 16-Leads, Body 10.3x7.5mm, Pitch 1.27mm, IPC Medium Density)
footprint 211F_L (SOIC, 16-Leads, Body 10.3x7.5mm, Pitch 1.27mm, IPC High Density)
footprint 211F_M (SOIC, 16-Leads, Body 10.3x7.5mm, Pitch 1.27mm, IPC Low Density)
3D model SOIC16 (16-Pin Small Outline Integrated Circuit 1.27 mm Pitch)
simulation model INA114 (SUBCKT)
pins: 1 NC, 2 RG1, 3 NC, 4 IN- (in), 5 IN+ (in), 6 NC, 7 -V (power), 8 NC, 9 NC, 10 REF, 11 OUT (out), 12 FBK (in), 13 +V (power), 14 NC, 15 RG2, 16 NC

## INA115AU
designator U?
Precision Instrumentation Amplifier; Note: Pins 6, 9 and 16 are No internal Connection (NC) pins.; Published: 8-Jun-2000; LatestRevisionDate: 13-Apr-2006; LatestRevisionNote: IPC-7351 Footprint Added.; DatasheetVersion: Oct-1993; PackageReference: 211F; Publisher: Altium Limited; PackageDescription: 16-Pin Small Outline Integrated Circuit 1.27 mm Pitch; Code_JEDEC: MS-013-AA; Code_IPC: SOIC127P1030-16; ComponentLink1Description: Manufacturer Link; ComponentLink1URL: http://www.ti.com/; ComponentLink2Description: Datasheet; ComponentLink2URL: http://www-s.ti.com/sc/ds/INA115.pdf
footprint 211F_N (SOIC, 16-Leads, Body 10.3x7.5mm, Pitch 1.27mm, IPC Medium Density)
footprint 211F_L (SOIC, 16-Leads, Body 10.3x7.5mm, Pitch 1.27mm, IPC High Density)
footprint 211F_M (SOIC, 16-Leads, Body 10.3x7.5mm, Pitch 1.27mm, IPC Low Density)
3D model SOIC16 (16-Pin Small Outline Integrated Circuit 1.27 mm Pitch)
simulation model INA115 (SUBCKT)
pins: 1 VO1 (out), 2 G SEN1 (in), 3 RG (in), 4 IN- (in), 5 IN+ (in), 6 NC, 7 V- (power), 8 VO2 (out), 9 NC, 10 REF (in), 11 OUT (out), 12 FB (in), 13 V+ (power), 14 RG (in), 15 G SEN2 (in), 16 NC

## INA115BU
designator U?
Precision Instrumentation Amplifier; Note: Pins 6, 9 and 16 are No internal Connection (NC) pins.; Published: 8-Jun-2000; LatestRevisionDate: 13-Apr-2006; LatestRevisionNote: IPC-7351 Footprint Added.; DatasheetVersion: Oct-1993; PackageReference: 211F; Publisher: Altium Limited; PackageDescription: 16-Pin Small Outline Integrated Circuit 1.27 mm Pitch; Code_JEDEC: MS-013-AA; Code_IPC: SOIC127P1030-16; ComponentLink1Description: Manufacturer Link; ComponentLink1URL: http://www.ti.com/; ComponentLink2Description: Datasheet; ComponentLink2URL: http://www-s.ti.com/sc/ds/INA115.pdf
footprint 211F_N (SOIC, 16-Leads, Body 10.3x7.5mm, Pitch 1.27mm, IPC Medium Density)
footprint 211F_L (SOIC, 16-Leads, Body 10.3x7.5mm, Pitch 1.27mm, IPC High Density)
footprint 211F_M (SOIC, 16-Leads, Body 10.3x7.5mm, Pitch 1.27mm, IPC Low Density)
3D model SOIC16 (16-Pin Small Outline Integrated Circuit 1.27 mm Pitch)
simulation model INA115 (SUBCKT)
pins: 1 VO1 (out), 2 G SEN1 (in), 3 RG (in), 4 IN- (in), 5 IN+ (in), 6 NC, 7 V- (power), 8 VO2 (out), 9 NC, 10 REF (in), 11 OUT (out), 12 FB (in), 13 V+ (power), 14 RG (in), 15 G SEN2 (in), 16 NC

## INA116P
designator U?
Ultra-Low Input Bias Current Instrumentation Amplifier; Note: Pins 10, 12, 14 and 15 are No internal Connection (NC) pins.; Published: 8-Jun-2000; LatestRevisionDate: 06-Jun-2005; LatestRevisionNote: Stylized 3D Model Added.; DatasheetVersion: May-1995; PackageVersion: revF; PackageReference: ZZ180; Publisher: Altium Limited; PackageDescription: DIP, Plastic; 16 Leads; Row Spacing 7.62 mm; Pitch 2.54 mm; Code_JEDEC: MS-001-BB; ComponentLink1Description: Manufacturer Link; ComponentLink1URL: http://www.ti.com/; ComponentLink2Description: Datasheet; ComponentLink2URL: http://www-s.ti.com/sc/ds/INA116.pdf
footprint ZZ180 (DIP, Plastic; 16 Leads; Row Spacing 7.62 mm; Pitch 2.54 mm)
3D model ZZ180 (DIP, Plastic; 16 Leads; Row Spacing 7.62 mm; Pitch 2.54 mm)
pins: 1 RG (in), 2 GUD-, 3 IN- (in), 4 GUD-, 5 GUD+, 6 IN+ (in), 7 GUD+, 8 V- (power), 9 REF (in), 10 NC, 11 OUT (out), 12 NC, 13 V+ (power), 14 NC, 15 NC, 16 RG (in)

## INA116PA
designator U?
Ultra-Low Input Bias Current Instrumentation Amplifier; Note: Pins 10, 12, 14 and 15 are No internal Connection (NC) pins.; Published: 8-Jun-2000; LatestRevisionDate: 06-Jun-2005; LatestRevisionNote: Stylized 3D Model Added.; DatasheetVersion: May-1995; PackageVersion: revF; PackageReference: ZZ180; Publisher: Altium Limited; PackageDescription: DIP, Plastic; 16 Leads; Row Spacing 7.62 mm; Pitch 2.54 mm; Code_JEDEC: MS-001-BB; ComponentLink1Description: Manufacturer Link; ComponentLink1URL: http://www.ti.com/; ComponentLink2Description: Datasheet; ComponentLink2URL: http://www-s.ti.com/sc/ds/INA116.pdf
footprint ZZ180 (DIP, Plastic; 16 Leads; Row Spacing 7.62 mm; Pitch 2.54 mm)
3D model ZZ180 (DIP, Plastic; 16 Leads; Row Spacing 7.62 mm; Pitch 2.54 mm)
pins: 1 RG (in), 2 GUD-, 3 IN- (in), 4 GUD-, 5 GUD+, 6 IN+ (in), 7 GUD+, 8 V- (power), 9 REF (in), 10 NC, 11 OUT (out), 12 NC, 13 V+ (power), 14 NC, 15 NC, 16 RG (in)

## INA116U
designator U?
Ultra-Low Input Bias Current Instrumentation Amplifier; Note: Pins 10, 12, 14 and 15 are No internal Connection (NC) pins.; Published: 8-Jun-2000; LatestRevisionDate: 13-Apr-2006; LatestRevisionNote: IPC-7351 Footprint Added.; DatasheetVersion: May-1995; PackageReference: 211F; Publisher: Altium Limited; PackageDescription: 16-Pin Small Outline Integrated Circuit 1.27 mm Pitch; Code_JEDEC: MS-013-AA; Code_IPC: SOIC127P1030-16; ComponentLink1Description: Manufacturer Link; ComponentLink1URL: http://www.ti.com/; ComponentLink2Description: Datasheet; ComponentLink2URL: http://www-s.ti.com/sc/ds/INA116.pdf
footprint 211F_N (SOIC, 16-Leads, Body 10.3x7.5mm, Pitch 1.27mm, IPC Medium Density)
footprint 211F_L (SOIC, 16-Leads, Body 10.3x7.5mm, Pitch 1.27mm, IPC High Density)
footprint 211F_M (SOIC, 16-Leads, Body 10.3x7.5mm, Pitch 1.27mm, IPC Low Density)
3D model SOIC16 (16-Pin Small Outline Integrated Circuit 1.27 mm Pitch)
pins: 1 RG (in), 2 GUD-, 3 IN- (in), 4 GUD-, 5 GUD+, 6 IN+ (in), 7 GUD+, 8 V- (power), 9 REF (in), 10 NC, 11 OUT (out), 12 NC, 13 V+ (power), 14 NC, 15 NC, 16 RG (in)

## INA116UA
designator U?
Ultra-Low Input Bias Current Instrumentation Amplifier; Note: Pins 10, 12, 14 and 15 are No internal Connection (NC) pins.; Published: 8-Jun-2000; LatestRevisionDate: 13-Apr-2006; LatestRevisionNote: IPC-7351 Footprint Added.; DatasheetVersion: May-1995; PackageReference: 211F; Publisher: Altium Limited; PackageDescription: 16-Pin Small Outline Integrated Circuit 1.27 mm Pitch; Code_JEDEC: MS-013-AA; Code_IPC: SOIC127P1030-16; ComponentLink1Description: Manufacturer Link; ComponentLink1URL: http://www.ti.com/; ComponentLink2Description: Datasheet; ComponentLink2URL: http://www-s.ti.com/sc/ds/INA116.pdf
footprint 211F_N (SOIC, 16-Leads, Body 10.3x7.5mm, Pitch 1.27mm, IPC Medium Density)
footprint 211F_L (SOIC, 16-Leads, Body 10.3x7.5mm, Pitch 1.27mm, IPC High Density)
footprint 211F_M (SOIC, 16-Leads, Body 10.3x7.5mm, Pitch 1.27mm, IPC Low Density)
3D model SOIC16 (16-Pin Small Outline Integrated Circuit 1.27 mm Pitch)
pins: 1 RG (in), 2 GUD-, 3 IN- (in), 4 GUD-, 5 GUD+, 6 IN+ (in), 7 GUD+, 8 V- (power), 9 REF (in), 10 NC, 11 OUT (out), 12 NC, 13 V+ (power), 14 NC, 15 NC, 16 RG (in)

## INA118P
designator U?
Precision, Low-Power Instrumentation Amplifier; Published: 8-Jun-2000; LatestRevisionDate: 06-Jun-2005; LatestRevisionNote: Stylized 3D Model Added.; DatasheetVersion: Apr-1998; PackageVersion: revE; PackageReference: 006E; Publisher: Altium Limited; PackageDescription: DIP; 8 Leads; Row Spacing 7.62 mm; Pitch 2.54 mm; ComponentLink1Description: Manufacturer Link; ComponentLink1URL: http://www.ti.com/; ComponentLink2Description: Datasheet; ComponentLink2URL: http://www-s.ti.com/sc/ds/INA118.pdf
footprint 006E (DIP; 8 Leads; Row Spacing 7.62 mm; Pitch 2.54 mm)
3D model DIP8 (DIP; 8 Leads; Row Spacing 7.62 mm; Pitch 2.54 mm)
simulation model INA118 (SUBCKT)
pins: 1 RG, 2 IN- (in), 3 IN+ (in), 4 -V (power), 5 REF, 6 OUT (out), 7 +V (power), 8 RG

## INA118PB
designator U?
Precision, Low-Power Instrumentation Amplifier; Published: 8-Jun-2000; LatestRevisionDate: 06-Jun-2005; LatestRevisionNote: Stylized 3D Model Added.; DatasheetVersion: Apr-1998; PackageVersion: revE; PackageReference: 006E; Publisher: Altium Limited; PackageDescription: DIP; 8 Leads; Row Spacing 7.62 mm; Pitch 2.54 mm; ComponentLink1Description: Manufacturer Link; ComponentLink1URL: http://www.ti.com/; ComponentLink2Description: Datasheet; ComponentLink2URL: http://www-s.ti.com/sc/ds/INA118.pdf
footprint 006E (DIP; 8 Leads; Row Spacing 7.62 mm; Pitch 2.54 mm)
3D model DIP8 (DIP; 8 Leads; Row Spacing 7.62 mm; Pitch 2.54 mm)
simulation model INA118 (SUBCKT)
pins: 1 RG, 2 IN- (in), 3 IN+ (in), 4 -V (power), 5 REF, 6 OUT (out), 7 +V (power), 8 RG

## INA118U
designator U?
Precision, Low-Power Instrumentation Amplifier; Published: 8-Jun-2000; LatestRevisionDate: 13-Apr-2006; LatestRevisionNote: IPC-7351 Footprint Added.; DatasheetVersion: Apr-1998; PackageReference: 182H; Publisher: Altium Limited; PackageDescription: 8-Pin Small Outline Integrated Circuit 1.27 mm Pitch; Code_JEDEC: MS-012-AA; Code_IPC: SOIC127P600-8; ComponentLink1Description: Manufacturer Link; ComponentLink1URL: http://www.ti.com/; ComponentLink2Description: Datasheet; ComponentLink2URL: http://www-s.ti.com/sc/ds/INA118.pdf
footprint 182H_N (SOIC, 8-Leads, Body 4.9x3.9mm, Pitch 1.27mm, IPC Medium Density)
footprint 182H_L (SOIC, 8-Leads, Body 4.9x3.9mm, Pitch 1.27mm, IPC High Density)
footprint 182H_M (SOIC, 8-Leads, Body 4.9x3.9mm, Pitch 1.27mm, IPC Low Density)
3D model SOIC8 (8-Pin Small Outline Integrated Circuit 1.27 mm Pitch)
simulation model INA118 (SUBCKT)
pins: 1 RG, 2 IN- (in), 3 IN+ (in), 4 -V (power), 5 REF, 6 OUT (out), 7 +V (power), 8 RG

## INA118UB
designator U?
Precision, Low-Power Instrumentation Amplifier; Published: 8-Jun-2000; LatestRevisionDate: 13-Apr-2006; LatestRevisionNote: IPC-7351 Footprint Added.; DatasheetVersion: Apr-1998; PackageReference: 182H; Publisher: Altium Limited; PackageDescription: 8-Pin Small Outline Integrated Circuit 1.27 mm Pitch; Code_JEDEC: MS-012-AA; Code_IPC: SOIC127P600-8; ComponentLink1Description: Manufacturer Link; ComponentLink1URL: http://www.ti.com/; ComponentLink2Description: Datasheet; ComponentLink2URL: http://www-s.ti.com/sc/ds/INA118.pdf
footprint 182H_N (SOIC, 8-Leads, Body 4.9x3.9mm, Pitch 1.27mm, IPC Medium Density)
footprint 182H_L (SOIC, 8-Leads, Body 4.9x3.9mm, Pitch 1.27mm, IPC High Density)
footprint 182H_M (SOIC, 8-Leads, Body 4.9x3.9mm, Pitch 1.27mm, IPC Low Density)
3D model SOIC8 (8-Pin Small Outline Integrated Circuit 1.27 mm Pitch)
simulation model INA118 (SUBCKT)
pins: 1 RG, 2 IN- (in), 3 IN+ (in), 4 -V (power), 5 REF, 6 OUT (out), 7 +V (power), 8 RG

## INA120AP
designator U?
Precision Instrumentation Amplifier; ComponentAvailability: Obsolete; Published: 8-Jun-2000; LatestRevisionDate: 06-Jun-2005; LatestRevisionNote: Stylized 3D Model Added.; DatasheetVersion: 1994; PackageVersion: revD; PackageReference: 218D; Publisher: Altium Limited; PackageDescription: DIP; 18 Leads; Row Spacing 7.62 mm; Pitch 2.54 mm; ComponentLink1Description: Manufacturer Link; ComponentLink1URL: http://www.ti.com/; ComponentLink2Description: Datasheet; ComponentLink2URL: http://www-s.ti.com/sc/ds/ina120.pdf
footprint 218D (DIP; 18 Leads; Row Spacing 7.62 mm; Pitch 2.54 mm)
3D model DIP18 (DIP; 18 Leads; Row Spacing 7.62 mm; Pitch 2.54 mm)
pins: 1 OUT (out), 2 +V (power), 3 IN- (in), 4 G SEN1 (in), 5 G SET1, 6 OS ADJ, 7 OS ADJ, 8 RC, 9 X1000, 10 X100, 11 X10, 12 A1 OUT (out), 13 A2 OUT (out), 14 G SET2, 15 G SEN2 (in), 16 IN+ (in), 17 -V (power), 18 GND (power)

## INA120BG
designator U?
Precision Instrumentation Amplifier; ComponentAvailability: Obsolete; Published: 8-Jun-2000; LatestRevisionDate: 06-Jun-2005; LatestRevisionNote: Stylized 3D Model Added.; DatasheetVersion: 1994; PackageVersion: 1995; PackageReference: 158; Publisher: Altium Limited; PackageDescription: DIP; 18 Leads; Row Spacing 7.62 mm; Pitch 2.54 mm; ComponentLink1Description: Manufacturer Link; ComponentLink1URL: http://www.ti.com/; ComponentLink2Description: Datasheet; ComponentLink2URL: http://www-s.ti.com/sc/ds/ina120.pdf
footprint 158 (DIP; 18 Leads; Row Spacing 7.62 mm; Pitch 2.54 mm)
3D model DIP18 (DIP; 18 Leads; Row Spacing 7.62 mm; Pitch 2.54 mm)
pins: 1 OUT (out), 2 +V (power), 3 IN- (in), 4 G SEN1 (in), 5 G SET1, 6 OS ADJ, 7 OS ADJ, 8 RC, 9 X1000, 10 X100, 11 X10, 12 A1 OUT (out), 13 A2 OUT (out), 14 G SET2, 15 G SEN2 (in), 16 IN+ (in), 17 -V (power), 18 GND (power)

## INA120BP
designator U?
Precision Instrumentation Amplifier; ComponentAvailability: Obsolete; Published: 8-Jun-2000; LatestRevisionDate: 06-Jun-2005; LatestRevisionNote: Stylized 3D Model Added.; DatasheetVersion: 1994; PackageVersion: revD; PackageReference: 218D; Publisher: Altium Limited; PackageDescription: DIP; 18 Leads; Row Spacing 7.62 mm; Pitch 2.54 mm; ComponentLink1Description: Manufacturer Link; ComponentLink1URL: http://www.ti.com/; ComponentLink2Description: Datasheet; ComponentLink2URL: http://www-s.ti.com/sc/ds/ina120.pdf
footprint 218D (DIP; 18 Leads; Row Spacing 7.62 mm; Pitch 2.54 mm)
3D model DIP18 (DIP; 18 Leads; Row Spacing 7.62 mm; Pitch 2.54 mm)
pins: 1 OUT (out), 2 +V (power), 3 IN- (in), 4 G SEN1 (in), 5 G SET1, 6 OS ADJ, 7 OS ADJ, 8 RC, 9 X1000, 10 X100, 11 X10, 12 A1 OUT (out), 13 A2 OUT (out), 14 G SET2, 15 G SEN2 (in), 16 IN+ (in), 17 -V (power), 18 GND (power)

## INA120CG
designator U?
Precision Instrumentation Amplifier; ComponentAvailability: Obsolete; Published: 8-Jun-2000; LatestRevisionDate: 06-Jun-2005; LatestRevisionNote: Stylized 3D Model Added.; DatasheetVersion: 1994; PackageVersion: 1995; PackageReference: 158; Publisher: Altium Limited; PackageDescription: DIP; 18 Leads; Row Spacing 7.62 mm; Pitch 2.54 mm; ComponentLink1Description: Manufacturer Link; ComponentLink1URL: http://www.ti.com/; ComponentLink2Description: Datasheet; ComponentLink2URL: http://www-s.ti.com/sc/ds/ina120.pdf
footprint 158 (DIP; 18 Leads; Row Spacing 7.62 mm; Pitch 2.54 mm)
3D model DIP18 (DIP; 18 Leads; Row Spacing 7.62 mm; Pitch 2.54 mm)
pins: 1 OUT (out), 2 +V (power), 3 IN- (in), 4 G SEN1 (in), 5 G SET1, 6 OS ADJ, 7 OS ADJ, 8 RC, 9 X1000, 10 X100, 11 X10, 12 A1 OUT (out), 13 A2 OUT (out), 14 G SET2, 15 G SEN2 (in), 16 IN+ (in), 17 -V (power), 18 GND (power)

## INA121P
designator U?
FET-Input, Low Power Instrumentation Amplifier; Published: 17-Jul-2002; LatestRevisionDate: 06-Jun-2005; LatestRevisionNote: Stylized 3D Model Added.; DatasheetVersion: May-1998; PackageVersion: revE; PackageReference: 006E; Publisher: Altium Limited; PackageDescription: DIP; 8 Leads; Row Spacing 7.62 mm; Pitch 2.54 mm; ComponentLink1Description: Manufacturer Link; ComponentLink1URL: http://www.ti.com/; ComponentLink2Description: Datasheet; ComponentLink2URL: http://www-s.ti.com/sc/ds/INA121.pdf
footprint 006E (DIP; 8 Leads; Row Spacing 7.62 mm; Pitch 2.54 mm)
3D model DIP8 (DIP; 8 Leads; Row Spacing 7.62 mm; Pitch 2.54 mm)
simulation model INA121E (SUBCKT)
pins: 1 RG, 2 IN- (in), 3 IN+ (in), 4 -V (power), 5 REF, 6 OUT (out), 7 +V (power), 8 RG

## INA121PA
designator U?
FET-Input, Low Power Instrumentation Amplifier; Published: 17-Jul-2002; LatestRevisionDate: 06-Jun-2005; LatestRevisionNote: Stylized 3D Model Added.; DatasheetVersion: May-1998; PackageVersion: revE; PackageReference: 006E; Publisher: Altium Limited; PackageDescription: DIP; 8 Leads; Row Spacing 7.62 mm; Pitch 2.54 mm; ComponentLink1Description: Manufacturer Link; ComponentLink1URL: http://www.ti.com/; ComponentLink2Description: Datasheet; ComponentLink2URL: http://www-s.ti.com/sc/ds/INA121.pdf
footprint 006E (DIP; 8 Leads; Row Spacing 7.62 mm; Pitch 2.54 mm)
3D model DIP8 (DIP; 8 Leads; Row Spacing 7.62 mm; Pitch 2.54 mm)
simulation model INA121E (SUBCKT)
pins: 1 RG, 2 IN- (in), 3 IN+ (in), 4 -V (power), 5 REF, 6 OUT (out), 7 +V (power), 8 RG

## INA121U
designator U?
FET-Input, Low Power Instrumentation Amplifier; Published: 17-Jul-2002; LatestRevisionDate: 13-Apr-2006; LatestRevisionNote: IPC-7351 Footprint Added.; DatasheetVersion: May-1998; PackageReference: 182H; Publisher: Altium Limited; PackageDescription: 8-Pin Small Outline Integrated Circuit 1.27 mm Pitch; Code_JEDEC: MS-012-AA; Code_IPC: SOIC127P600-8; ComponentLink1Description: Manufacturer Link; ComponentLink1URL: http://www.ti.com/; ComponentLink2Description: Datasheet; ComponentLink2URL: http://www-s.ti.com/sc/ds/INA121.pdf
footprint 182H_N (SOIC, 8-Leads, Body 4.9x3.9mm, Pitch 1.27mm, IPC Medium Density)
footprint 182H_L (SOIC, 8-Leads, Body 4.9x3.9mm, Pitch 1.27mm, IPC High Density)
footprint 182H_M (SOIC, 8-Leads, Body 4.9x3.9mm, Pitch 1.27mm, IPC Low Density)
3D model SOIC8 (8-Pin Small Outline Integrated Circuit 1.27 mm Pitch)
simulation model INA121E (SUBCKT)
pins: 1 RG, 2 IN- (in), 3 IN+ (in), 4 -V (power), 5 REF, 6 OUT (out), 7 +V (power), 8 RG